# Altium schematic symbol library LCD.SchLib: 6 symbols
Pins are listed as number, name and electrical type; pins without a type are passive.

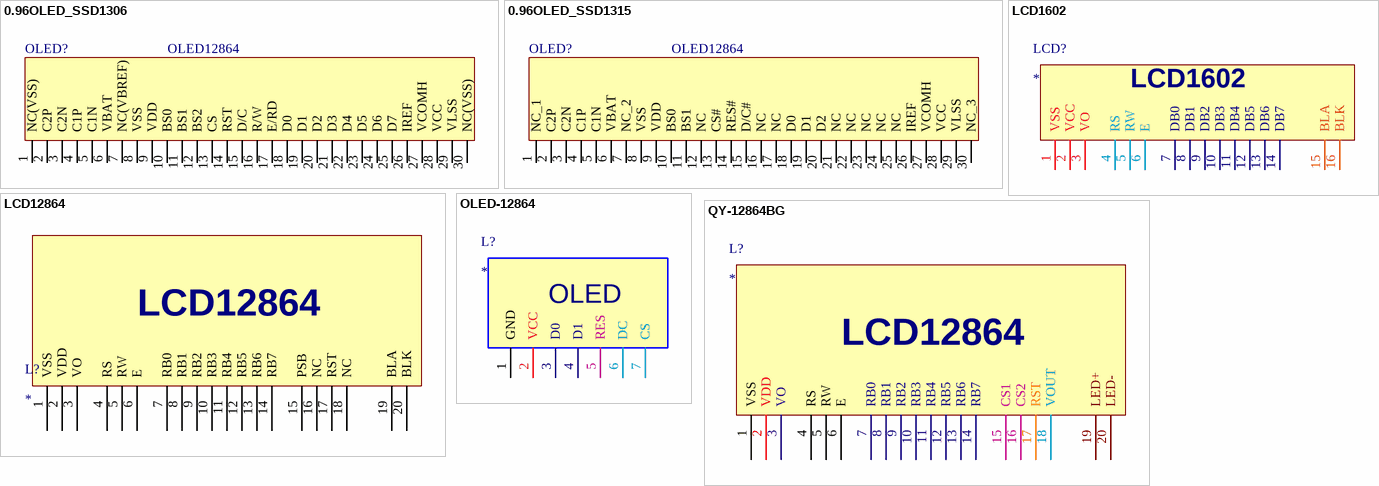
[diagram p0: symbols 0.96OLED_SSD1306 to QY-12864BG]

## 0.96OLED_SSD1306
designator OLED?, comment OLED12864
IIC模式
footprint OLED_0.96 (128*64)
pins: 1 NC(VSS), 2 C2P, 3 C2N, 4 C1P, 5 C1N, 6 VBAT, 7 NC(VBREF), 8 VSS, 9 VDD, 10 BS0, 11 BS1, 12 BS2, 13 CS, 14 RST, 15 D/C, 16 R/W, 17 E/RD, 18 D0, 19 D1, 20 D2, 21 D3, 22 D4, 23 D5, 24 D6, 25 D7, 26 IREF, 27 VCOMH, 28 VCC, 29 VLSS, 30 NC(VSS)

## 0.96OLED_SSD1315
designator OLED?, comment OLED12864
IIC模式
footprint OLED_0.96 (128*64)
pins: 1 NC_1, 2 C2P, 3 C2N, 4 C1P, 5 C1N, 6 VBAT, 7 NC_2, 8 VSS, 9 VDD, 10 BS0, 11 BS1, 12 NC, 13 CS#, 14 RES#, 15 D/C#, 16 NC, 17 NC, 18 D0, 19 D1, 20 D2, 21 NC, 22 NC, 23 NC, 24 NC, 25 NC, 26 IREF, 27 VCOMH, 28 VCC, 29 VLSS, 30 NC_3

## LCD1602
designator LCD?
footprint LCD1602
pins: 1 VSS, 2 VCC, 3 VO, 4 RS, 5 RW, 6 E, 7 DB0, 8 DB1, 9 DB2, 10 DB3, 11 DB4, 12 DB5, 13 DB6, 14 DB7, 15 BLA, 16 BLK

## LCD12864
designator L?
footprint LCD12864
pins: 1 VSS, 2 VDD, 3 VO, 4 RS, 5 RW, 6 E, 7 RB0, 8 RB1, 9 RB2, 10 RB3, 11 RB4, 12 RB5, 13 RB6, 14 RB7, 15 PSB, 16 NC, 17 RST, 18 NC, 19 BLA, 20 BLK

## OLED-12864
designator L?
footprint OLED-12864
pins: 1 GND, 2 VCC, 3 D0, 4 D1, 5 RES, 6 DC, 7 CS
text: OLED

## QY-12864BG
designator L?
footprint QY-12864BG
pins: 1 VSS, 2 VDD, 3 VO, 4 RS, 5 RW, 6 E, 7 RB0, 8 RB1, 9 RB2, 10 RB3, 11 RB4, 12 RB5, 13 RB6, 14 RB7, 15 CS1, 16 CS2, 17 RST, 18 VOUT, 19 LED+, 20 LED-
text: LCD12864